# Altium integrated library Infineon_Power_Smart_Low-Side_&_High-Side_Switches.IntLib: 238 symbols (part 13 of 14)
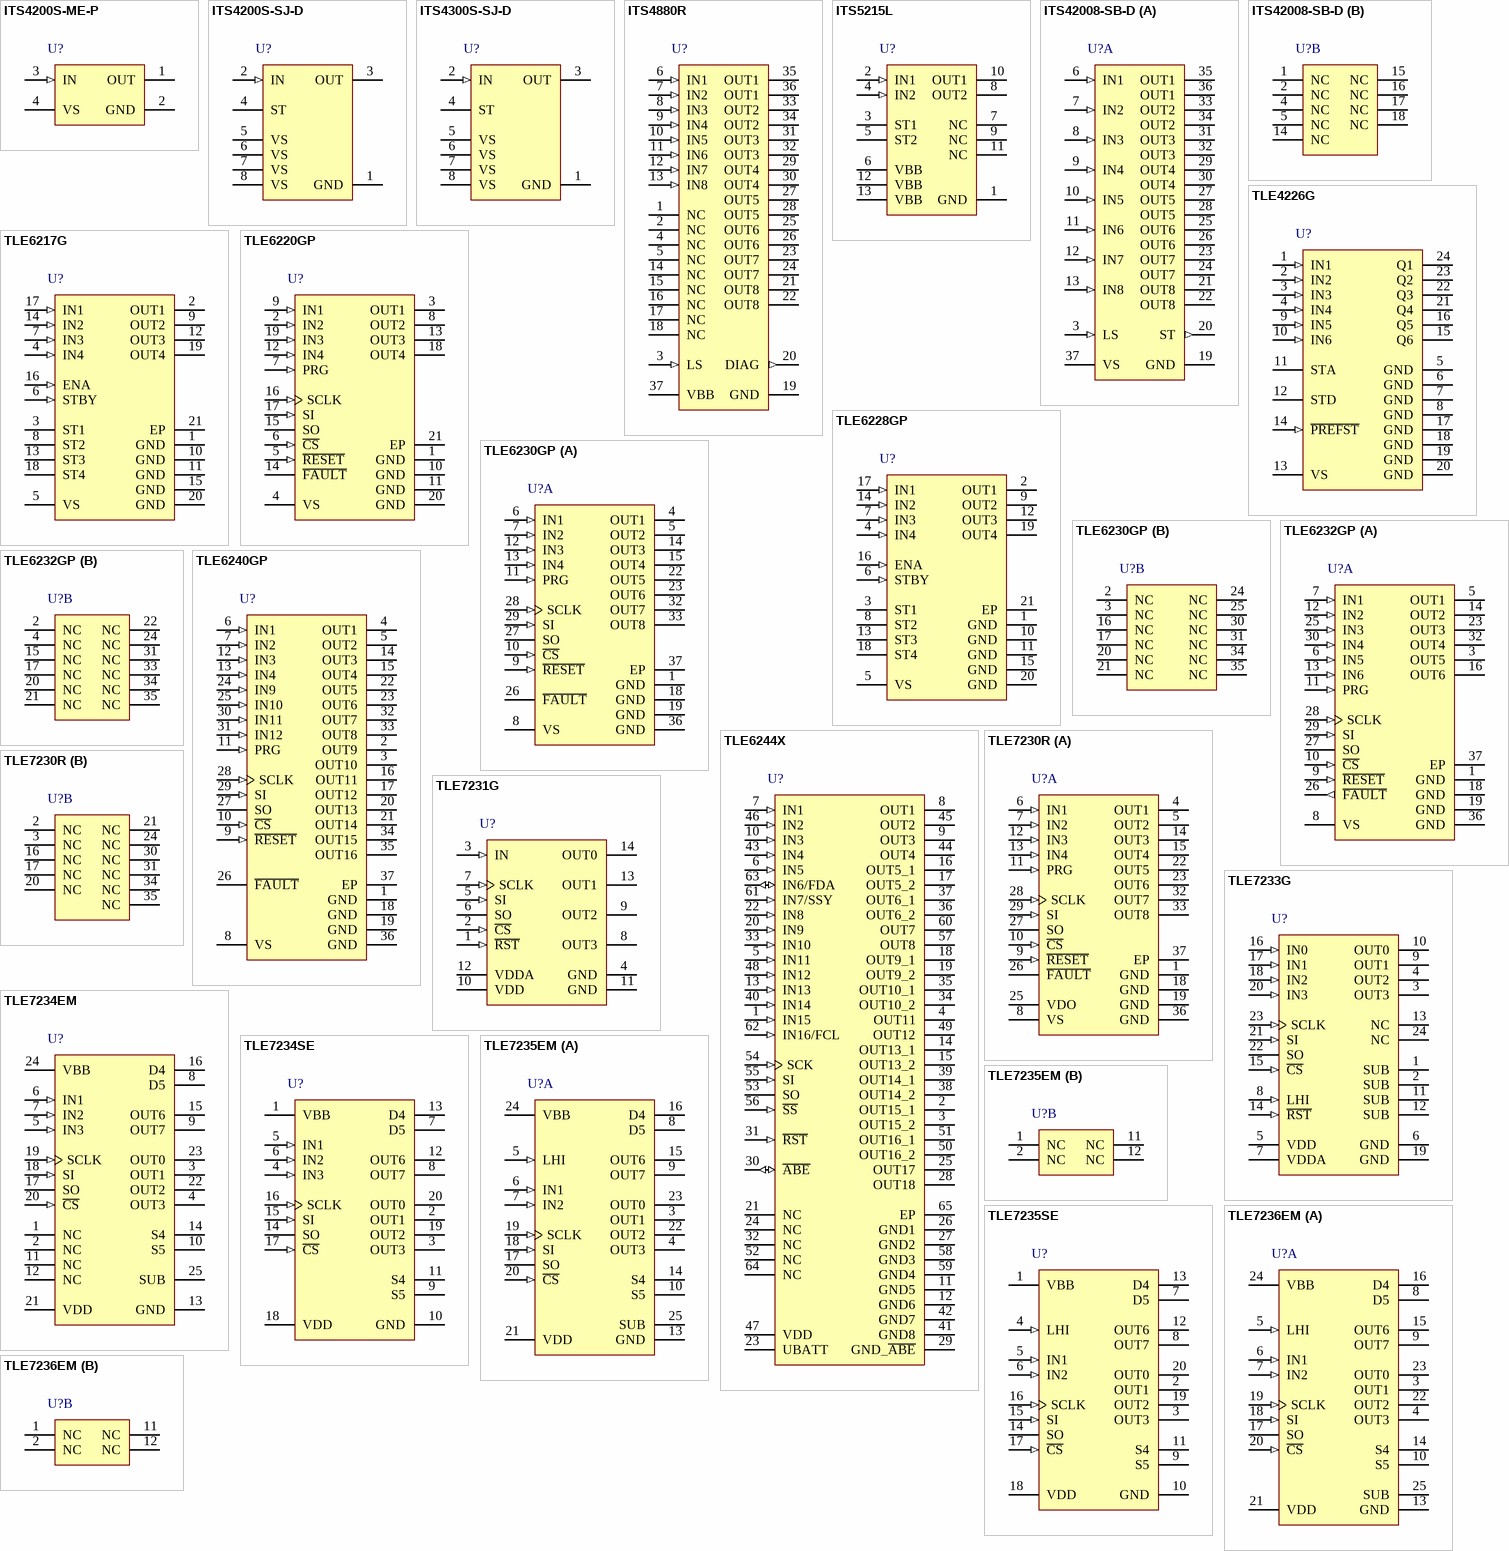
[diagram p19: symbols ITS4200S-ME-P to TLE7236EM]

## TLE7235SE
designator U?
SPI Driver for Enhanced Relay Control, 10 uA Quiescent Current, 3 to 5.5 V VDD, -40 to 150 degC, PG-DSO-20-45, Reel, Green; Manufacturer: Infineon; PartNumber: TLE7235SE; Channels: 8; Configurable channels: 2; Cranking mode: FALSE; Daisy-chain capability: TRUE; ID nom: 280 mA; ID(lim) (min): 0.5 A; Open Load Detection: off; Overcurrent limitation or shutdown: Shutdown; Quiescent Current (max): 10 uA; RDS (on) (max): 1.8 Ohm; RDS (on) (typ): 0.85 Ohm; SPI: 8 Bit; VDD: 3 - 5.5 V; VDS(CL): 41 - 52 V; DatasheetVersion: Rev. 1.1; PackageVersion: Apr-11; PackageReference: PG-DSO-20-45; PackageDescription: 20-Pin Plastic (Green) Dual Small Outline Package, 12.7 x 7.5 mm Body, 1.27 mm Pitch; Supplier 1: Mouser; Supplier Part Number 1: 726-TLE7235SE; Supplier 2: Digi-Key; Supplier Part Number 2: TLE7235SE-ND; Green: TRUE; Halogen-free: TRUE; Limp Home Feature: TRUE; Open Load Disable Function: TRUE; Packing: Reel; PWM Inputs: 2; Short to GND detection: TRUE; Standby mode: TRUE; Undervoltage Shutdown: TRUE; Mounting Technology: Surface Mount; ComponentLink1Description: Manufacturer URL; ComponentLink1URL: http://www.infineon.com/; ComponentLink2Description: Datasheet; ComponentLink2URL: http://www.infineon.com/dgdl/TLE7235SE_DS_11.pdf?folderId=db3a3043163797a6011667aa084c0e01&fileId=db3a3043284aacd8012887f07d4d7fef&location=en.Products.Automotive_ICs.Smart_High-_and_Low-Side_Switches.SPIDER___SPI_Driver_for_enhanced_relay_control.DATASHEET.TLE7235SE_DS_11.pdf; ComponentLink3Description: Package Specification; ComponentLink3URL: http://www.infineon.com/dgdl/TLE7235SE_DS_11.pdf?folderId=db3a3043163797a6011667aa084c0e01&fileId=db3a3043284aacd8012887f07d4d7fef&sId=db3a30443d67b5ca013d7d7458a72269
footprint INF-PG-DSO-20-45_N (SOP, 20-Leads, Body 12.7x7.5mm, Pitch 1.27mm, IPC Medium Density)
footprint INF-PG-DSO-20-45_L (SOP, 20-Leads, Body 12.7x7.5mm, Pitch 1.27mm, IPC High Density)
footprint INF-PG-DSO-20-45_M (SOP, 20-Leads, Body 12.7x7.5mm, Pitch 1.27mm, IPC Low Density)
pins: 1 VBB (power) "Power supply", 2 OUT1 (power) "Source of high side power transistor channel 1", 3 OUT3 (power) "Source of high side power transistor channel 3", 4 LHI (in) "Limp home activation input pin (pull down)", 5 IN1 (in) "Input multiplexer input 1 pin (pull down)", 6 IN2 (in) "Input multiplexer input 2 pin (pull down)", 7 D5 (power) "Drain of auto configuring power transistor 5", 8 OUT7 (power) "Drain of low side power transistor channel 7", 9 S5 (power) "Source of auto configuring power transistor 5", 10 GND (power) "Digital,analog and power ground", 11 S4 (power) "Source of auto configuring power transistor 4", 12 OUT6 (power) "Drain of low side power transistor channel 6", 13 D4 (power) "Drain of auto configuring power transistor 4", 14 SO (hiz) "Serial data out", 15 SI (in) "Serial data in", 16 SCLK (in) "Serial clock", 17 ~{CS} (in) "SPI Chip select (pull up)", 18 VDD (power) "Digital power supply", 19 OUT2 (power) "Source of high side power transistor channel 2", 20 OUT0 (power) "Source of high side power transistor channel 0"

## TLE7236EM
designator U?
SPI Driver for Enhanced Relay Control, 10 uA Quiescent Current, 3 to 5.5 V VDD, -40 to 150 degC, PG-SSOP-24-4, Reel, Green; Manufacturer: Infineon; PartNumber: TLE7236EM; Channels: 8; Configurable channels: 2; Cranking mode: TRUE; ID nom: 350 mA; ID(lim) (min): 0.5 A; Open Load Detection: off; Overcurrent limitation or shutdown: Shutdown; Quiescent Current (max): 10 uA; RDS (on) (max): 1.9 Ohm; RDS (on) (typ): 0.9 Ohm; SPI: 8 Bit; VDD: 3 - 5.5 V; VDS(CL): 41 - 52 V; DatasheetVersion: Rev. 1.1; PackageVersion: Oct-12; PackageReference: PG-SSOP-24-4; PackageDescription: 24-Pin Plastic (Green) Shrink Small Outline Package, 8.65 x 3.9 mm Body, 0.65 mm Pitch; Supplier 1: Mouser; Supplier Part Number 1: 726-TLE7236EM; Supplier 2: Digi-Key; Supplier Part Number 2: TLE7236EM-ND; Daisy-chain capability: TRUE; Green: TRUE; Halogen-free: TRUE; Limp Home Feature: TRUE; Open Load Disable Function: TRUE; Packing: Reel; PWM Inputs: 2; Short to GND detection: TRUE; Standby mode: TRUE; Undervoltage Shutdown: TRUE; Mounting Technology: Surface Mount; ComponentLink1Description: Manufacturer URL; ComponentLink1URL: http://www.infineon.com/; ComponentLink2Description: Datasheet; ComponentLink2URL: http://www.infineon.com/dgdl/TLE7236EM_DS_11.pdf?folderId=db3a3043163797a6011667aa084c0e01&fileId=db3a3043284aacd8012887f318227ff7&location=en.Products.Automotive_ICs.Smart_High-_and_Low-Side_Switches.SPIDER___SPI_Driver_for_enhanced_relay_control.DATASHEET.TLE7236EM_DS_11.pdf; ComponentLink3Description: Package Specification; ComponentLink3URL: http://www.infineon.com/dgdl/TLE8088EM_DS_10.pdf?folderId=db3a30431b3e89eb011bb632994f065b&fileId=db3a30433a047ba0013a446e76be0bbb&location=en.Products.Automotive_ICs.Powertrain_ICs.Power_Interface_Products_for_Motorcycle_and_Small_Engines.DATASHEET.TLE8088EM_DS_10.pdf
footprint INF-PG-SSOP-24-4_N (SOP, 24-Leads, Body 8.65x3.9mm, Pitch 0.65mm, Thermal Pad 6.65x2.9mm, IPC Medium Density)
footprint INF-PG-SSOP-24-4_L (SOP, 24-Leads, Body 8.65x3.9mm, Pitch 0.65mm, Thermal Pad 6.65x2.9mm, IPC High Density)
footprint INF-PG-SSOP-24-4_M (SOP, 24-Leads, Body 8.65x3.9mm, Pitch 0.65mm, Thermal Pad 6.65x2.9mm, IPC Low Density)
part A pins: 3 OUT1 (power) "Source of high side power transistor channel 1", 4 OUT3 (power) "Source of high side power transistor channel 3", 5 LHI (in) "Limp home activation input pin (pull down)", 6 IN1 (in) "Input multiplexer input 1 pin (pull down)", 7 IN2 (in) "Input multiplexer input 2 pin (pull down)", 8 D5 (power) "Drain of auto configuring power transistor 5", 9 OUT7 (power) "Drain of low side power transistor channel 7", 10 S5 (power) "Source of auto configuring power transistor 5", 13 GND (power) "Digital, analog and power ground", 14 S4 (power) "Source of auto configuring power transistor 4", 15 OUT6 (power) "Drain of low side power transistor channel 6", 16 D4 (power) "Drain of auto configuring power transistor 4", 17 SO (hiz) "Serial data out", 18 SI (in) "Serial data in", 19 SCLK (in) "Serial clock", 20 ~{CS} (in) "SPI Chip select (pull up)", 21 VDD (power) "Digital power supply", 22 OUT2 (power) "Source of high side power transistor channel 2", 23 OUT0 (power) "Source of high side power transistor channel 0", 24 VBB (power) "Power supply", 25 SUB "Substrate pins for thermal connection. To enable reverse polarity protection these pins must be floating"
part B pins: 1 NC "not connected", 2 NC "not connected", 11 NC "not connected", 12 NC "not connected"

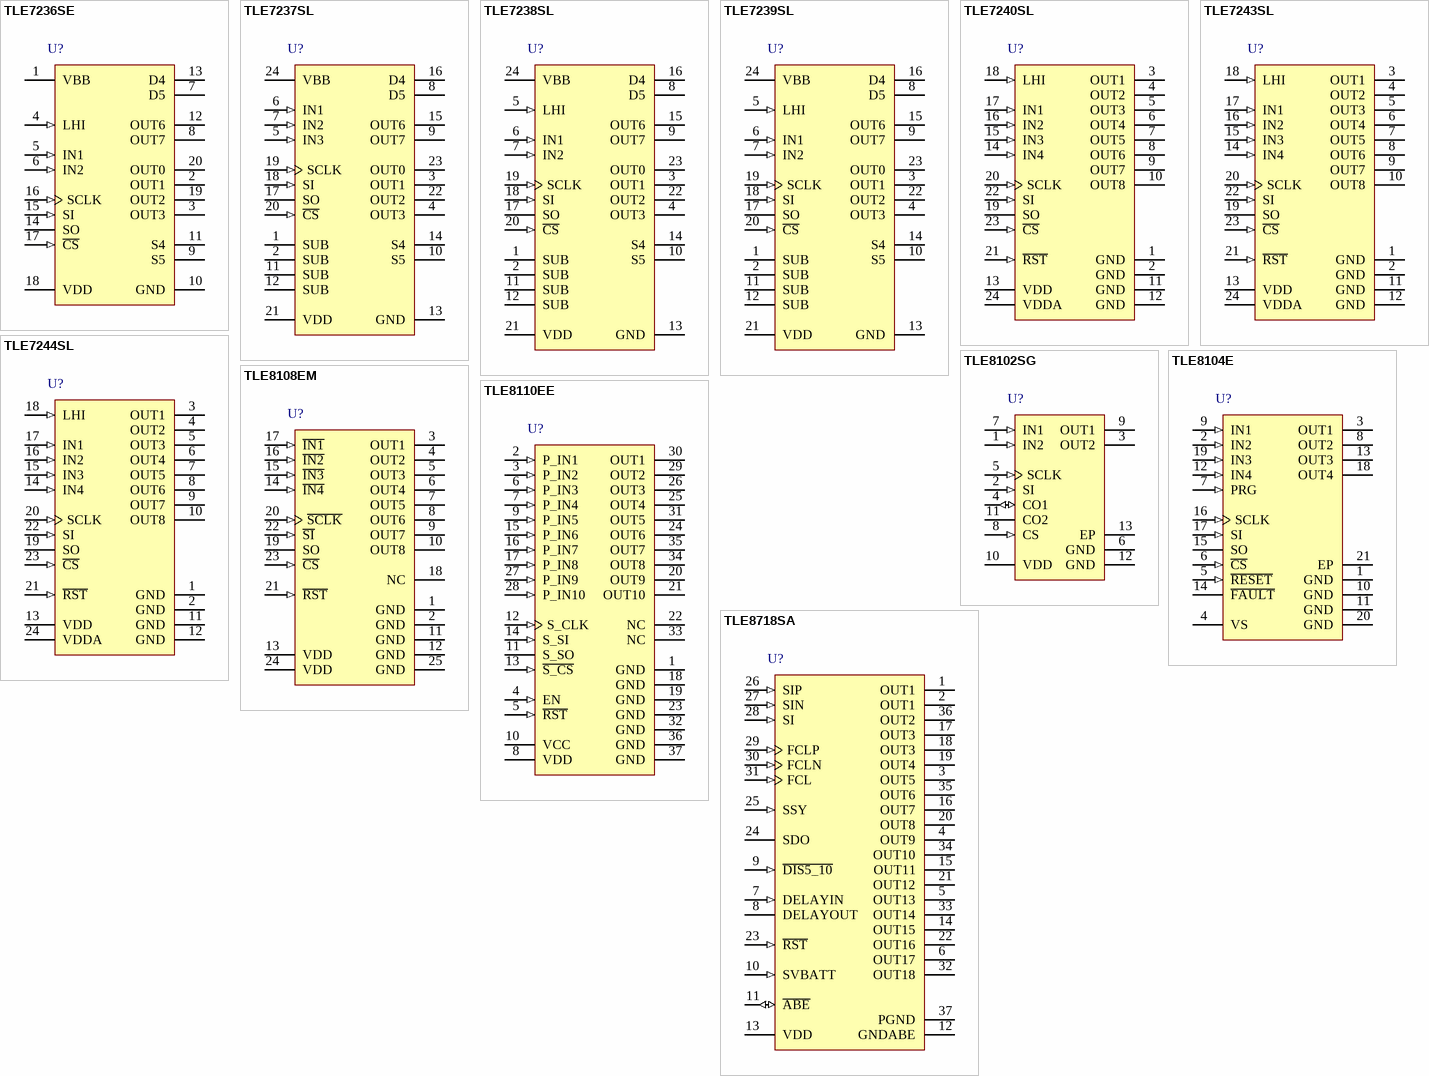
[diagram p7: symbols TLE7236SE to TLE8718SA]

## TLE7236SE
designator U?
SPI Driver for Enhanced Relay Control, 10 uA Quiescent Current, 3 to 5.5 V VDD, -40 to 150 degC, PG-DSO-20-45, Reel, Green; Manufacturer: Infineon; PartNumber: TLE7236SE; Channels: 8; Configurable channels: 2; Cranking mode: TRUE; ID nom: 280 mA; ID(lim) (min): 0.5 A; Open Load Detection: off; Overcurrent limitation or shutdown: Shutdown; Quiescent Current (max): 10 uA; RDS (on) (max): 1.8 Ohm; RDS (on) (typ): 0.85 Ohm; SPI: 8 Bit; VDD: 3 - 5.5 V; VDS(CL): 41 - 52 V; DatasheetVersion: Rev. 1.1; PackageVersion: Apr-11; PackageReference: PG-DSO-20-45; PackageDescription: 20-Pin Plastic (Green) Dual Small Outline Package, 12.7 x 7.5 mm Body, 1.27 mm Pitch; Supplier 1: Mouser; Supplier Part Number 1: 726-TLE7236SE; Supplier 2: Digi-Key; Supplier Part Number 2: TLE7236SE-ND; Daisy-chain capability: TRUE; Green: TRUE; Halogen-free: TRUE; Limp Home Feature: TRUE; Open Load Disable Function: TRUE; Packing: Reel; PWM Inputs: 2; Short to GND detection: TRUE; Standby mode: TRUE; Undervoltage Shutdown: TRUE; Mounting Technology: Surface Mount; ComponentLink1Description: Manufacturer URL; ComponentLink1URL: http://www.infineon.com/; ComponentLink2Description: Datasheet; ComponentLink2URL: http://www.infineon.com/dgdl/TLE7236SE_DS_11.pdf?folderId=db3a3043163797a6011667aa084c0e01&fileId=db3a3043284aacd8012888809e310011&location=en.Products.Automotive_ICs.Smart_High-_and_Low-Side_Switches.SPIDER___SPI_Driver_for_enhanced_relay_control.DATASHEET.TLE7236SE_DS_11.pdf; ComponentLink3Description: Package Specification; ComponentLink3URL: http://www.infineon.com/dgdl/TLE7235SE_DS_11.pdf?folderId=db3a3043163797a6011667aa084c0e01&fileId=db3a3043284aacd8012887f07d4d7fef&sId=db3a30443d67b5ca013d7d7458a72269
footprint INF-PG-DSO-20-45_N (SOP, 20-Leads, Body 12.7x7.5mm, Pitch 1.27mm, IPC Medium Density)
footprint INF-PG-DSO-20-45_L (SOP, 20-Leads, Body 12.7x7.5mm, Pitch 1.27mm, IPC High Density)
footprint INF-PG-DSO-20-45_M (SOP, 20-Leads, Body 12.7x7.5mm, Pitch 1.27mm, IPC Low Density)
pins: 1 VBB (power) "Power supply", 2 OUT1 (power) "Source of high side power transistor channel 1", 3 OUT3 (power) "Source of high side power transistor channel 3", 4 LHI (in) "Limp home activation input pin (pull down)", 5 IN1 (in) "Input multiplexer input 1 pin (pull down)", 6 IN2 (in) "Input multiplexer input 2 pin (pull down)", 7 D5 (power) "Drain of auto configuring power transistor 5", 8 OUT7 (power) "Drain of low side power transistor channel 7", 9 S5 "Source of auto configuring power transistor 5", 10 GND (power) "Digital,analog and power ground", 11 S4 "Source of auto configuring power transistor 4", 12 OUT6 (power) "Drain of low side power transistor channel 6", 13 D4 (power) "Drain of auto configuring power transistor 4", 14 SO (hiz) "Serial data out", 15 SI (in) "Serial data in", 16 SCLK (in) "Serial clock", 17 ~{CS} (in) "SPI Chip select (pull up)", 18 VDD (power) "Digital power supply", 19 OUT2 (power) "Source of high side power transistor channel 2", 20 OUT0 (power) "Source of high side power transistor channel 0"

## TLE7237SL
designator U?
SPI Driver for Enhanced Relay Control, 10 uA Quiescent Current, 3 to 5.5 V VDD, -40 to 150 degC, PG-SSOP-24-5, Reel, Green; Manufacturer: Infineon; PartNumber: TLE7237SL; Channels: 8; Configurable channels: 2; Cranking mode: FALSE; Daisy-chain capability: TRUE; ID nom: 260 mA; ID(lim) (min): 0.5 A; Open Load Detection: off; Overcurrent limitation or shutdown: Shutdown; PWM Inputs: 3; Quiescent Current (max): 10 uA; RDS (on) (max): 1.9 Ohm; RDS (on) (typ): 0.9 Ohm; SPI: 8 Bit; VDD: 3 - 5.5 V; VDS(CL): 41 - 52 V; DatasheetVersion: Rev. 1.1; PackageVersion: Apr-10; PackageReference: PG-SSOP-24-5; PackageDescription: 24-Pin Plastic (Green) Shrink Small Outline Package, 8.65 x 3.9 mm Body, 0.65 mm Pitch; Supplier 1: Mouser; Supplier Part Number 1: 726-TLE7237SL; Supplier 2: Digi-Key; Supplier Part Number 2: TLE7237SL-ND; Green: TRUE; Halogen-free: TRUE; Limp Home Feature: FALSE; Open Load Disable Function: TRUE; Packing: Reel; Short to GND detection: TRUE; Standby mode: TRUE; Undervoltage Shutdown: TRUE; Mounting Technology: Surface Mount; ComponentLink1Description: Manufacturer URL; ComponentLink1URL: http://www.infineon.com/; ComponentLink2Description: Datasheet; ComponentLink2URL: http://www.infineon.com/dgdl/TLE7237SL_DS_11.pdf?folderId=db3a3043163797a6011667aa084c0e01&fileId=db3a3043284aacd80128887b1ecf7ffd&location=en.Products.Automotive_ICs.Smart_High-_and_Low-Side_Switches.SPIDER___SPI_Driver_for_enhanced_relay_control.DATASHEET.TLE7237SL_DS_11.pdf; ComponentLink3Description: Package Specification; ComponentLink3URL: http://www.infineon.com/dgdl/PG-SSOP-24-5%2C-6%2C-7-Package_Overview.pdf?folderId=db3a304327b897500127f7a03f7d6554&fileId=db3a304327b89750012817aa493a1a04
footprint INF-PG-SSOP-24-5_N (SOP, 24-Leads, Body 8.65x3.9mm, Pitch 0.65mm, IPC Medium Density)
footprint INF-PG-SSOP-24-5_L (SOP, 24-Leads, Body 8.65x3.9mm, Pitch 0.65mm, IPC High Density)
footprint INF-PG-SSOP-24-5_M (SOP, 24-Leads, Body 8.65x3.9mm, Pitch 0.65mm, IPC Low Density)
pins: 1 SUB "Substrate pins for thermal connection. To enable reverse polarity protection these pins must be floating", 2 SUB "Substrate pins for thermal connection. To enable reverse polarity protection these pins must be floating", 3 OUT1 (power) "Source of high side power transistor channel 1", 4 OUT3 (power) "Source of high side power transistor channel 3", 5 IN3 (in) "Input multiplexer input 3 pin (pull down)", 6 IN1 (in) "Input multiplexer input 1 pin (pull down)", 7 IN2 (in) "Input multiplexer input 2 pin (pull down)", 8 D5 (power) "Drain of auto configuring power transistor 5", 9 OUT7 (power) "Drain of low side power transistor channel 7", 10 S5 (power) "Source of auto con?guring power transistor 5", 11 SUB "Substrate pins for thermal connection. To enable reverse polarity protection these pins must be floating", 12 SUB "Substrate pins for thermal connection. To enable reverse polarity protection these pins must be floating", 13 GND (power) "Digital, analog and power ground", 14 S4 (power) "Source of auto configuring power transistor 4", 15 OUT6 (power) "Drain of low side power transistor channel 6", 16 D4 (power) "Drain of auto con?guring power transistor 4", 17 SO (hiz) "Serial data out", 18 SI (in) "Serial data in.", 19 SCLK (in) "Serial clock.", 20 ~{CS} (in) "SPI Chip select (pull up)", 21 VDD (power) "Digital power supply", 22 OUT2 (power) "Source of high side power transistor channel 2", 23 OUT0 (power) "Source of high side power transistor channel 0", 24 VBB (power) "Power supply"

## TLE7238SL
designator U?
SPI Driver for Enhanced Relay Control, 10 uA Quiescent Current, 3 to 5.5 V VDD, -40 to 150 degC, PG-SSOP-24-5, Reel, Green; Manufacturer: Infineon; PartNumber: TLE7238SL; Channels: 8; Configurable channels: 2; Cranking mode: FALSE; Daisy-chain capability: TRUE; ID nom: 260 mA; ID(lim) (min): 0.5 A; Open Load Detection: off; Overcurrent limitation or shutdown: Shutdown; Quiescent Current (max): 10 uA; RDS (on) (max): 1.9 Ohm; RDS (on) (typ): 0.9 Ohm; SPI: 8 Bit; VDD: 3 - 5.5 V; VDS(CL): 41 - 52 V; DatasheetVersion: Rev. 1.1; PackageVersion: Apr-10; PackageReference: PG-SSOP-24-5; PackageDescription: 24-Pin Plastic (Green) Shrink Small Outline Package, 8.65 x 3.9 mm Body, 0.65 mm Pitch; Supplier 1: Mouser; Supplier Part Number 1: 726-TLE7238SL; Supplier 2: Digi-Key; Supplier Part Number 2: TLE7238SL-ND; Green: TRUE; Halogen-free: TRUE; Limp Home Feature: TRUE; Open Load Disable Function: TRUE; Packing: Reel; PWM Inputs: 2; Short to GND detection: TRUE; Standby mode: TRUE; Undervoltage Shutdown: TRUE; Mounting Technology: Surface Mount; ComponentLink1Description: Manufacturer URL; ComponentLink1URL: http://www.infineon.com/; ComponentLink2Description: Datasheet; ComponentLink2URL: http://www.infineon.com/dgdl/TLE7238SL_DS_11.pdf?folderId=db3a3043163797a6011667aa084c0e01&fileId=db3a3043284aacd80128887c9d390002&location=en.Products.Automotive_ICs.Smart_High-_and_Low-Side_Switches.SPIDER___SPI_Driver_for_enhanced_relay_control.DATASHEET.TLE7238SL_DS_11.pdf; ComponentLink3Description: Package Specification; ComponentLink3URL: http://www.infineon.com/dgdl/PG-SSOP-24-5%2C-6%2C-7-Package_Overview.pdf?folderId=db3a304327b897500127f7a03f7d6554&fileId=db3a304327b89750012817aa493a1a04
footprint INF-PG-SSOP-24-5_N (SOP, 24-Leads, Body 8.65x3.9mm, Pitch 0.65mm, IPC Medium Density)
footprint INF-PG-SSOP-24-5_L (SOP, 24-Leads, Body 8.65x3.9mm, Pitch 0.65mm, IPC High Density)
footprint INF-PG-SSOP-24-5_M (SOP, 24-Leads, Body 8.65x3.9mm, Pitch 0.65mm, IPC Low Density)
pins: 1 SUB "Substrate pins for thermal connection. To enable reverse polarity protection these pins must be floating", 2 SUB "Substrate pins for thermal connection. To enable reverse polarity protection these pins must be floating", 3 OUT1 (power) "Source of high side power transistor channel 1", 4 OUT3 (power) "Source of high side power transistor channel 3", 5 LHI (in) "Limp home activation input pin (pull down)", 6 IN1 (in) "Input multiplexer input 1 pin (pull down)", 7 IN2 (in) "Input multiplexer input 2 pin (pull down)", 8 D5 (power) "Drain of auto con?guring power transistor 5", 9 OUT7 (power) "Drain of low side power transistor channel 7", 10 S5 (power) "Source of auto configuring power transistor 5", 11 SUB "Substrate pins for thermal connection. To enable reverse polarity protection these pins must be floating", 12 SUB "Substrate pins for thermal connection. To enable reverse polarity protection these pins must be floating", 13 GND (power) "Digital, analog and power ground", 14 S4 (power) "Source of auto configuring power transistor 4", 15 OUT6 (power) "Drain of low side power transistor channel 6", 16 D4 (power) "Drain of auto con?guring power transistor 4", 17 SO (hiz) "Serial data out", 18 SI (in) "Serial data in.", 19 SCLK (in) "Serial clock.", 20 ~{CS} (in) "SPI Chip select (pull up)", 21 VDD (power) "Digital power supply", 22 OUT2 (power) "Source of high side power transistor channel 2", 23 OUT0 (power) "Source of high side power transistor channel 0", 24 VBB (power) "Power supply"

## TLE7239SL
designator U?
SPI Driver for Enhanced Relay Control, 10 uA Quiescent Current, 3 to 5.5 V VDD, -40 to 150 degC, PG-SSOP-24-5, Reel, Green; Manufacturer: Infineon; PartNumber: TLE7239SL; Channels: 8; Configurable channels: 2; Cranking mode: TRUE; ID nom: 260 mA; ID(lim) (min): 0.5 A; Open Load Detection: off; Overcurrent limitation or shutdown: Shutdown; Quiescent Current (max): 10 uA; RDS (on) (max): 1.9 Ohm; RDS (on) (typ): 0.9 Ohm; SPI: 8 Bit; VDD: 3 - 5.5 V; VDS(CL): 41 - 52 V; DatasheetVersion: Rev. 1.1; PackageVersion: Apr-10; PackageReference: PG-SSOP-24-5; PackageDescription: 24-Pin Plastic (Green) Shrink Small Outline Package, 8.65 x 3.9 mm Body, 0.65 mm Pitch; Supplier 1: Mouser; Supplier Part Number 1: 726-TLE7239SL; Supplier 2: Digi-Key; Supplier Part Number 2: TLE7239SL-ND; Daisy-chain capability: TRUE; Green: TRUE; Halogen-free: TRUE; Limp Home Feature: TRUE; Open Load Disable Function: TRUE; Packing: Reel; PWM Inputs: 2; Short to GND detection: TRUE; Standby mode: TRUE; Undervoltage Shutdown: TRUE; Mounting Technology: Surface Mount; ComponentLink1Description: Manufacturer URL; ComponentLink1URL: http://www.infineon.com/; ComponentLink2Description: Datasheet; ComponentLink2URL: http://www.infineon.com/dgdl/TLE7239SL_DS_11.pdf?folderId=db3a3043163797a6011667aa084c0e01&fileId=db3a3043284aacd80128887ddae30007&location=en.Products.Automotive_ICs.Smart_High-_and_Low-Side_Switches.SPIDER___SPI_Driver_for_enhanced_relay_control.DATASHEET.TLE7239SL_DS_11.pdf; ComponentLink3Description: Package Specification; ComponentLink3URL: http://www.infineon.com/dgdl/PG-SSOP-24-5%2C-6%2C-7-Package_Overview.pdf?folderId=db3a304327b897500127f7a03f7d6554&fileId=db3a304327b89750012817aa493a1a04
footprint INF-PG-SSOP-24-5_N (SOP, 24-Leads, Body 8.65x3.9mm, Pitch 0.65mm, IPC Medium Density)
footprint INF-PG-SSOP-24-5_L (SOP, 24-Leads, Body 8.65x3.9mm, Pitch 0.65mm, IPC High Density)
footprint INF-PG-SSOP-24-5_M (SOP, 24-Leads, Body 8.65x3.9mm, Pitch 0.65mm, IPC Low Density)
pins: 1 SUB "Substrate pins for thermal connection. To enable reverse polarity protection these pins must be floating", 2 SUB "Substrate pins for thermal connection. To enable reverse polarity protection these pins must be floating", 3 OUT1 (power) "Source of high side power transistor channel 1", 4 OUT3 (power) "Source of high side power transistor channel 3", 5 LHI (in) "Limp home activation input pin (pull down)", 6 IN1 (in) "Input multiplexer input 1 pin (pull down)", 7 IN2 (in) "Input multiplexer input 2 pin (pull down)", 8 D5 (power) "Drain of auto con?guring power transistor 5", 9 OUT7 (power) "Drain of low side power transistor channel 7", 10 S5 (power) "Source of auto configuring power transistor 5", 11 SUB "Substrate pins for thermal connection. To enable reverse polarity protection these pins must be floating", 12 SUB "Substrate pins for thermal connection. To enable reverse polarity protection these pins must be floating", 13 GND (power) "Digital, analog and power ground", 14 S4 (power) "Source of auto configuring power transistor 4", 15 OUT6 (power) "Drain of low side power transistor channel 6", 16 D4 (power) "Drain of auto con?guring power transistor 4", 17 SO (hiz) "Serial data out", 18 SI (in) "Serial data in.", 19 SCLK (in) "Serial clock.", 20 ~{CS} (in) "SPI Chip select (pull up)", 21 VDD (power) "Digital power supply", 22 OUT2 (power) "Source of high side power transistor channel 2", 23 OUT0 (power) "Source of high side power transistor channel 0", 24 VBB (power) "Power supply"

## TLE7240SL
designator U?
SPIDER-8 Channel Protected Low-Side Relay Switch, 10 uA Quiescent Current, 3 to 5.5 V VDD, -40 to 150 degC, PG-SSOP-24-7, Reel, Green; Manufacturer: Infineon; PartNumber: TLE7240SL; Channels: 8; Cranking mode: FALSE; Daisy-chain capability: TRUE; ID nom: 210 mA; ID(lim) (min): 0.5 A; Open Load Detection: off; Overcurrent limitation or shutdown: No; PWM Inputs: 4; Quiescent Current (max): 10 uA; RDS (on) (max): 3 Ohm; RDS (on) (typ): 1.5 Ohm; SPI: 16 Bit; VDD: 3 - 5.5 V; VDS(CL): 41 - 52 V; DatasheetVersion: Rev. 1.4; PackageVersion: Apr-10; PackageReference: PG-SSOP-24-7; PackageDescription: 24-Pin Plastic (Green) Shrink Small Outline Package, 8.65 x 3.9 mm Body, 0.65 mm Pitch; Supplier 1: Mouser; Supplier Part Number 1: 726-TLE7240SL; Supplier 2: Digi-Key; Supplier Part Number 2: TLE7240SL-ND; Green: TRUE; Halogen-free: TRUE; Limp Home Feature: TRUE; Open Load Disable Function: TRUE; Packing: Reel; Short to GND detection: TRUE; Standby mode: TRUE; Undervoltage Shutdown: TRUE; Mounting Technology: Surface Mount; ComponentLink1Description: Manufacturer URL; ComponentLink1URL: http://www.infineon.com/; ComponentLink2Description: Datasheet; ComponentLink2URL: http://www.infineon.com/dgdl/TLE7240SL_DS_14.pdf?folderId=db3a3043163797a6011667aa084c0e01&fileId=db3a304320896aa20120c7aa1fe1325c&location=en.Products.Automotive_ICs.Smart_High-_and_Low-Side_Switches.SPIDER___SPI_Driver_for_enhanced_relay_control.DATASHEET.TLE7240SL_DS_14.pdf; ComponentLink3Description: Package Specification; ComponentLink3URL: http://www.infineon.com/dgdl/PG-SSOP-24-5%2C-6%2C-7-Package_Overview.pdf?folderId=db3a304327b897500127f7a03f7d6554&fileId=db3a304327b89750012817aa493a1a04
footprint INF-PG-SSOP-24-7_N (SOP, 24-Leads, Body 8.65x3.9mm, Pitch 0.65mm, IPC Medium Density)
footprint INF-PG-SSOP-24-7_L (SOP, 24-Leads, Body 8.65x3.9mm, Pitch 0.65mm, IPC High Density)
footprint INF-PG-SSOP-24-7_M (SOP, 24-Leads, Body 8.65x3.9mm, Pitch 0.65mm, IPC Low Density)
pins: 1 GND (power) "Ground; common ground for digital, analog and power", 2 GND (power) "Ground; common ground for digital, analog and power", 3 OUT1 (power) "Output Channel 1; Drain of power transistor channel 1", 4 OUT2 (power) "Output Channel 2; Drain of power transistor channel 2", 5 OUT3 (power) "Output Channel 3; Drain of power transistor channel 3", 6 OUT4 (power) "Output Channel 4; Drain of power transistor channel 4", 7 OUT5 (power) "Output Channel 5; Drain of power transistor channel 5", 8 OUT6 (power) "Output Channel 6; Drain of power transistor channel 6", 9 OUT7 (power) "Output Channel 7; Drain of power transistor channel 7", 10 OUT8 (power) "Output Channel 8; Drain of power transistor channel 8", 11 GND (power) "Ground; common ground for digital, analog and power", 12 GND (power) "Ground; common ground for digital, analog and power", 13 VDD (power) "Digital Supply Voltage; Connected to 3.3V or 5V Voltage with Reverse protection Diode and Filter against EMC", 14 IN4 (in) "Control Input; Digital input 3.3 V or 5V. In case of not used keep open.", 15 IN3 (in) "Control Input; Digital input 3.3 V or 5V. In case of not used keep open.", 16 IN2 (in) "Control Input; Digital input 3.3 V or 5V. In case of not used keep open.", 17 IN1 (in) "Control Input; Digital input 3.3 V or 5V. In case of not used keep open.", 18 LHI (in) "Limp Home; Digital input 3.3 V or 5V. In case of not used keep open.", 19 SO (hiz) "Serial data out; Digital output with voltage level referring to VDD .", 20 SCLK (in) "Serial clock; Digital input 3.3 V or 5V.", 21 ~{RST} (in) "Reset input pin; Digital input 3.3 V or 5V. Low active", 22 SI (in) "Serial data in; Digital input 3.3 V or 5V.", 23 ~{CS} (in) "SPI chip select; Digital input 3.3 V or 5V. Low active", 24 VDDA (power) "Analog Supply Voltage; Connected to 5V Voltage with Reverse protection Diode and Filter against EMC"

## TLE7243SL
designator U?
SPIDER-8 Channel Protected Low-Side Relay Switch, 10 uA Quiescent Current, 3 to 5.5 V VDD, -40 to 150 degC, PG-SSOP-24-7, Reel, Green; Manufacturer: Infineon; PartNumber: TLE7243SL; Channels: 8; Cranking mode: FALSE; Daisy-chain capability: TRUE; ID nom: 260 mA; ID(lim) (min): 0.5 A; Open Load Detection: off; Overcurrent limitation or shutdown: No; PWM Inputs: 4; Quiescent Current (max): 10 uA; RDS (on) (max): 2.1 Ohm; RDS (on) (typ): 1.2 Ohm; SPI: 16 Bit; VDD: 3 - 5.5 V; VDS(CL): 41 - 52 V; DatasheetVersion: Rev. 1.3; PackageVersion: Apr-10; PackageReference: PG-SSOP-24-7; PackageDescription: 24-Pin Plastic (Green) Shrink Small Outline Package, 8.65 x 3.9 mm Body, 0.65 mm Pitch; Supplier 1: Mouser; Supplier Part Number 1: 726-TLE7243SL; Supplier 2: Digi-Key; Supplier Part Number 2: TLE7243SL-ND; Green: TRUE; Halogen-free: TRUE; Limp Home Feature: TRUE; Open Load Disable Function: TRUE; Packing: Reel; Short to GND detection: TRUE; Standby mode: TRUE; Undervoltage Shutdown: TRUE; Mounting Technology: Surface Mount; ComponentLink1Description: Manufacturer URL; ComponentLink1URL: http://www.infineon.com/; ComponentLink2Description: Datasheet; ComponentLink2URL: http://www.infineon.com/dgdl/TLE7243SL_DS_13.pdf?folderId=db3a304314dca3890114df197b25000f&fileId=db3a3043243b5f17012457aaa75109fa&location=en.Products.Automotive_ICs.Smart_High-_and_Low-Side_Switches.SPIDER___SPI_Driver_for_enhanced_relay_control.DATASHEET.TLE7243SL_DS_13.pdf; ComponentLink3Description: Package Specification; ComponentLink3URL: http://www.infineon.com/dgdl/PG-SSOP-24-5%2C-6%2C-7-Package_Overview.pdf?folderId=db3a304327b897500127f7a03f7d6554&fileId=db3a304327b89750012817aa493a1a04
footprint INF-PG-SSOP-24-7_N (SOP, 24-Leads, Body 8.65x3.9mm, Pitch 0.65mm, IPC Medium Density)
footprint INF-PG-SSOP-24-7_L (SOP, 24-Leads, Body 8.65x3.9mm, Pitch 0.65mm, IPC High Density)
footprint INF-PG-SSOP-24-7_M (SOP, 24-Leads, Body 8.65x3.9mm, Pitch 0.65mm, IPC Low Density)
pins: 1 GND (power) "Ground; common ground for digital, analog and power", 2 GND (power) "Ground; common ground for digital, analog and power", 3 OUT1 (power) "Output Channel 1; Drain of power transistor channel 1", 4 OUT2 (power) "Output Channel 2; Drain of power transistor channel 2", 5 OUT3 (power) "Output Channel 3; Drain of power transistor channel 3", 6 OUT4 (power) "Output Channel 4; Drain of power transistor channel 4", 7 OUT5 (power) "Output Channel 5; Drain of power transistor channel 5", 8 OUT6 (power) "Output Channel 6; Drain of power transistor channel 6", 9 OUT7 (power) "Output Channel 7; Drain of power transistor channel 7", 10 OUT8 (power) "Output Channel 8; Drain of power transistor channel 8", 11 GND (power) "Ground; common ground for digital, analog and power", 12 GND (power) "Ground; common ground for digital, analog and power", 13 VDD (power) "Digital Supply Voltage; Connected to 3.3V or 5V Voltage with Reverse protection Diode and Filter against EMC", 14 IN4 (in) "Control Input; Digital input 3.3 V or 5V. In case of not used keep open.", 15 IN3 (in) "Control Input; Digital input 3.3 V or 5V. In case of not used keep open.", 16 IN2 (in) "Control Input; Digital input 3.3 V or 5V. In case of not used keep open.", 17 IN1 (in) "Control Input; Digital input 3.3 V or 5V. In case of not used keep open.", 18 LHI (in) "Limp Home; Digital input 3.3 V or 5V. In case of not used keep open.", 19 SO (hiz) "Serial data out; Digital output with voltage level referring to VDD .", 20 SCLK (in) "Serial clock; Digital input 3.3 V or 5V.", 21 ~{RST} (in) "Reset input pin; Digital input 3.3 V or 5V. Low active", 22 SI (in) "Serial data in; Digital input 3.3 V or 5V.", 23 ~{CS} (in) "SPI chip select; Digital input 3.3 V or 5V. Low active", 24 VDDA (power) "Analog Supply Voltage; Connected to 5V Voltage with Reverse protection Diode and Filter against EMC"

## TLE7244SL
designator U?
SPIDER-8 Channel Protected Low-Side Relay Switch, 10 uA Quiescent Current, 3 to 5.5 V VDD, -40 to 150 degC, PG-SSOP-24-7, Reel, Green; Manufacturer: Infineon; PartNumber: TLE7244SL; Channels: 8; Cranking mode: FALSE; Daisy-chain capability: TRUE; ID nom: 290 mA; ID(lim) (min): 0.5 A; Open Load Detection: off; Overcurrent limitation or shutdown: No; PWM Inputs: 4; Quiescent Current (max): 10 uA; RDS (on) (max): 1.7 Ohm; RDS (on) (typ): 0.8 Ohm; SPI: 16 Bit; VDD: 3 - 5.5 V; VDS(CL): 41 - 52 V; DatasheetVersion: Rev. 1.3; PackageVersion: Apr-10; PackageReference: PG-SSOP-24-7; PackageDescription: 24-Pin Plastic (Green) Shrink Small Outline Package, 8.65 x 3.9 mm Body, 0.65 mm Pitch; Supplier 1: Mouser; Supplier Part Number 1: 726-TLE7244SL; Supplier 2: Digi-Key; Supplier Part Number 2: TLE7244SL-ND; Green: TRUE; Halogen-free: TRUE; Limp Home Feature: TRUE; Open Load Disable Function: TRUE; Packing: Reel; Short to GND detection: TRUE; Standby mode: TRUE; Undervoltage Shutdown: TRUE; Mounting Technology: Surface Mount; ComponentLink1Description: Manufacturer URL; ComponentLink1URL: http://www.infineon.com/; ComponentLink2Description: Datasheet; ComponentLink2URL: http://www.infineon.com/dgdl/TLE7244SL_DS_13.pdf?folderId=db3a3043163797a6011667aa084c0e01&fileId=db3a3043243b5f17012457a8816b09f5&location=en.Products.Automotive_ICs.Smart_High-_and_Low-Side_Switches.SPIDER___SPI_Driver_for_enhanced_relay_control.DATASHEET.TLE7244SL_DS_13.pdf; ComponentLink3Description: Package Specification; ComponentLink3URL: http://www.infineon.com/dgdl/PG-SSOP-24-5%2C-6%2C-7-Package_Overview.pdf?folderId=db3a304327b897500127f7a03f7d6554&fileId=db3a304327b89750012817aa493a1a04
footprint INF-PG-SSOP-24-7_N (SOP, 24-Leads, Body 8.65x3.9mm, Pitch 0.65mm, IPC Medium Density)
footprint INF-PG-SSOP-24-7_L (SOP, 24-Leads, Body 8.65x3.9mm, Pitch 0.65mm, IPC High Density)
footprint INF-PG-SSOP-24-7_M (SOP, 24-Leads, Body 8.65x3.9mm, Pitch 0.65mm, IPC Low Density)
pins: 1 GND (power) "Ground; common ground for digital, analog and power", 2 GND (power) "Ground; common ground for digital, analog and power", 3 OUT1 (power) "Output Channel 1; Drain of power transistor channel 1", 4 OUT2 (power) "Output Channel 2; Drain of power transistor channel 2", 5 OUT3 (power) "Output Channel 3; Drain of power transistor channel 3", 6 OUT4 (power) "Output Channel 4; Drain of power transistor channel 4", 7 OUT5 (power) "Output Channel 5; Drain of power transistor channel 5", 8 OUT6 (power) "Output Channel 6; Drain of power transistor channel 6", 9 OUT7 (power) "Output Channel 7; Drain of power transistor channel 7", 10 OUT8 (power) "Output Channel 8; Drain of power transistor channel 8", 11 GND (power) "Ground; common ground for digital, analog and power", 12 GND (power) "Ground; common ground for digital, analog and power", 13 VDD (power) "Digital Supply Voltage; Connected to 3.3V or 5V Voltage with Reverse protection Diode and Filter against EMC", 14 IN4 (in) "Control Input; Digital input 3.3 V or 5V. In case of not used keep open.", 15 IN3 (in) "Control Input; Digital input 3.3 V or 5V. In case of not used keep open.", 16 IN2 (in) "Control Input; Digital input 3.3 V or 5V. In case of not used keep open.", 17 IN1 (in) "Control Input; Digital input 3.3 V or 5V. In case of not used keep open.", 18 LHI (in) "Limp Home; Digital input 3.3 V or 5V. In case of not used keep open.", 19 SO (hiz) "Serial data out; Digital output with voltage level referring to VDD .", 20 SCLK (in) "Serial clock; Digital input 3.3 V or 5V.", 21 ~{RST} (in) "Reset input pin; Digital input 3.3 V or 5V. Low active", 22 SI (in) "Serial data in; Digital input 3.3 V or 5V.", 23 ~{CS} (in) "SPI chip select; Digital input 3.3 V or 5V. Low active", 24 VDDA (power) "Analog Supply Voltage; Connected to 5V Voltage with Reverse protection Diode and Filter against EMC"

## TLE8102SG
designator U?
Smart Dual Channel Powertrain Switch coreFLEX with Selectable Over-Current Protection, -40 to 150 degC, PG-DSO-12-11, Reel, Green; Manufacturer: Infineon; PartNumber: TLE8102SG; Channels: 2; Green: TRUE; Thermal class: Heatslug down; toff (max): 10 us 50 us; VDD: 5 V; VDS(CL): 53 V; VDS(CL) (min): 48 V; DatasheetVersion: V1.5; PackageVersion: Jun-08; PackageReference: PG-DSO-12-11; PackageDescription: 12-Pin Plastic (Green) Dual Small Outline Package, 6.4 x 7.5 mm Body, 1 mm Pitch; Supplier 1: Mouser; Supplier Part Number 1: 726-TLE8102SG; Supplier 2: Digi-Key; Supplier Part Number 2: TLE8102SGTR-ND; Supplier 3: Digi-Key; Supplier Part Number 3: TLE8102SGCT-ND; Supplier 4: Digi-Key; Supplier Part Number 4: TLE8102SGDKR-ND; Halogen-free: TRUE; Over-Current Protection: Selectable; Packing: Reel; ton (max): 10 us 50 us; Mounting Technology: Surface Mount; ComponentLink1Description: Manufacturer URL; ComponentLink1URL: http://www.infineon.com/; ComponentLink2Description: Datasheet; ComponentLink2URL: http://www.infineon.com/dgdl/TLE8102SG_v1+5.pdf?folderId=db3a30431400ef68011421b54e2e0564&fileId=db3a304319c6f18c0119c8384bf90042&sId=db3a30433d68e984013d7c34507d561b; ComponentLink3Description: Package Specification; ComponentLink3URL: http://www.infineon.com/dgdl/PG-DSO-12-4%2C-5%2C-8%2C-11%2C-12%2C-16-Package_Overview.pdf?folderId=db3a30431a5c32f2011a96d8abf9584d&fileId=db3a30431a5c32f2011a96ea67ce586f
footprint INF-PG-DSO-12-11_N (SOP, 12-Leads, Body 7.5x6.4mm, Pitch 1mm, Thermal Pad 7.9x4.3mm, IPC Medium Density)
footprint INF-PG-DSO-12-11_L (SOP, 12-Leads, Body 7.5x6.4mm, Pitch 1mm, Thermal Pad 7.9x4.3mm, IPC High Density)
footprint INF-PG-DSO-12-11_M (SOP, 12-Leads, Body 7.5x6.4mm, Pitch 1mm, Thermal Pad 7.9x4.3mm, IPC Low Density)
pins: 1 IN2 (in) "Input Channel 2", 2 SI (in) "SPI Signal In", 3 OUT2 (power) "Power Output Channel 2", 4 CO1 (io) "Current Sense 1/2/Fault/Status Ch1", 5 SCLK (in) "SPI Clock", 6 GND (power) "Ground", 7 IN1 (in) "Input Channel 1", 8 CS (in) "SPI Chip Select", 9 OUT1 (power) "Power Output Channel 1", 10 VDD (power) "Supply Voltage", 11 CO2 (hiz) "SPI Signal Out/Status Ch2", 12 GND (power) "Ground", 13 EP (power)

## TLE8104E
designator U?
Smart Quad Channel Powertrain Switch with Limitation Over-Current Protection, -40 to 150 degC, PG-DSO-20-30, Reel, Green; Manufacturer: Infineon; PartNumber: TLE8104E; Channels: 4; Green: TRUE; Thermal class: Exposed Pad; toff (max): 10 us; VDD: 5 V; VDS(CL): 53 V; VDS(CL) (min): 45 V; DatasheetVersion: V1.4; PackageVersion: Apr-09; PackageReference: PG-DSO-20-30; PackageDescription: 20-Pin Plastic (Green) Dual Small Outline Package, 12.7 x 7.5 mm Body, 1.27 mm Pitch; Supplier 1: Mouser; Supplier Part Number 1: 726-TLE8104E; Supplier 2: Digi-Key; Supplier Part Number 2: TLE8104ETR-ND; Supplier 3: Digi-Key; Supplier Part Number 3: TLE8104ECT-ND; Supplier 4: Digi-Key; Supplier Part Number 4: TLE8104EDKR-ND; Halogen-free: TRUE; Over-Current Protection: Limitation; Packing: Reel; ton (max): 10 us; Mounting Technology: Surface Mount; ComponentLink1Description: Manufacturer URL; ComponentLink1URL: http://www.infineon.com/; ComponentLink2Description: Datasheet; ComponentLink2URL: http://www.infineon.com/dgdl/TLE8104E-Data-Sheet-V14.pdf?folderId=db3a304314dca3890114df197b25000f&fileId=db3a304318f3fe2901190401cfda7f25&sId=db3a30443d67b5ca013d812c1a752cb1; ComponentLink3Description: Package Specification; ComponentLink3URL: http://www.infineon.com/dgdl/PG-DSO-20-27%2C-30-Package_Overview.pdf?folderId=db3a30431b0626df011b0b56b8d37d27&fileId=db3a30431c69a49d011c9eab3ee707b8
footprint INF-PG-DSO-20-30_N (SOP, 20-Leads, Body 12.7x7.5mm, Pitch 1.27mm, Thermal Pad 7000x4800mm, IPC Medium Density)
footprint INF-PG-DSO-20-30_L (SOP, 20-Leads, Body 12.7x7.5mm, Pitch 1.27mm, Thermal Pad 7000x4800mm, IPC High Density)
footprint INF-PG-DSO-20-30_M (SOP, 20-Leads, Body 12.7x7.5mm, Pitch 1.27mm, Thermal Pad 7000x4800mm, IPC Low Density)
pins: 1 GND (power) "Ground", 2 IN2 (in) "Input Channel 2", 3 OUT1 (power) "Power Output Channel 1", 4 VS (power) "Supply Voltage", 5 ~{RESET} (in) "Reset Input", 6 ~{CS} (in) "SPI Chip Select", 7 PRG (in) "Program Input", 8 OUT2 (power) "Power Output Channel 1", 9 IN1 (in) "Input Channel 1", 10 GND (power) "Ground", 11 GND (power) "Ground", 12 IN4 (in) "Input Channel 4", 13 OUT3 (power) "Power Output Channel 3", 14 ~{FAULT} (oc) "Fault Output", 15 SO (hiz) "SPI Signal Out", 16 SCLK (in) "SPI Clock", 17 SI (in) "SPI Signal In", 18 OUT4 (power) "Power Output Channel 4", 19 IN3 (in) "Input Channel 3", 20 GND (power) "Ground", 21 EP

## TLE8108EM
designator U?
Smart 8 Channel Low Side Relay Driver with SPI Interface with Limitation Over-Current Protection, -40 to 150 degC, PG-SSOP-24-4, Reel, Green; Manufacturer: Infineon; PartNumber: TLE8108EM; Channels: 8; Green: TRUE; Thermal class: Exposed Pad; toff (max): 50 us; VDD: 5 V; VDS(CL): 45 V; VDS(CL) (min): 41 V; DatasheetVersion: Rev. 1.0; PackageVersion: Oct-12; PackageReference: PG-SSOP-24-4; PackageDescription: 24-Pin Plastic (Green) Shrink Small Outline Package, 8.65 x 3.9 mm Body, 0.65 mm Pitch; Supplier 1: Mouser; Supplier Part Number 1: 726-TLE8108EM; Supplier 2: Digi-Key; Supplier Part Number 2: TLE8108EM-ND; Halogen-free: TRUE; Over-Current Protection: Limitation; Packing: Reel; ton (max): 50 us; Mounting Technology: Surface Mount; ComponentLink1Description: Manufacturer URL; ComponentLink1URL: http://www.infineon.com/; ComponentLink2Description: Datasheet; ComponentLink2URL: http://www.infineon.com/dgdl/TLE8108EM-v1.0-Data-Sheet.pdf?folderId=db3a30431400ef68011421b54e2e0564&fileId=db3a30433004641301302bf77ce863a2&sId=db3a30443d67b5ca013d7df33535290c; ComponentLink3Description: Package Specification; ComponentLink3URL: http://www.infineon.com/dgdl/TLE8088EM_DS_10.pdf?folderId=db3a30431b3e89eb011bb632994f065b&fileId=db3a30433a047ba0013a446e76be0bbb&location=en.Products.Automotive_ICs.Powertrain_ICs.Power_Interface_Products_for_Motorcycle_and_Small_Engines.DATASHEET.TLE8088EM_DS_10.pdf
footprint INF-PG-SSOP-24-4_N (SOP, 24-Leads, Body 8.65x3.9mm, Pitch 0.65mm, Thermal Pad 6.65x2.9mm, IPC Medium Density)
footprint INF-PG-SSOP-24-4_L (SOP, 24-Leads, Body 8.65x3.9mm, Pitch 0.65mm, Thermal Pad 6.65x2.9mm, IPC High Density)
footprint INF-PG-SSOP-24-4_M (SOP, 24-Leads, Body 8.65x3.9mm, Pitch 0.65mm, Thermal Pad 6.65x2.9mm, IPC Low Density)
pins: 1 GND (power) "Ground; common ground for digital, analog and power; Pins must be connected together without parasitic resistors", 2 GND (power) "Ground; common ground for digital, analog and power; Pins must be connected together without parasitic resistors", 3 OUT1 (power) "Output channel 1; Drain of power transistor channel 1", 4 OUT2 (power) "Output channel 2; Drain of power transistor channel 2", 5 OUT3 (power) "Output channel 3; Drain of power transistor channel 3", 6 OUT4 (power) "Output channel 4; Drain of power transistor channel 4", 7 OUT5 (power) "Output channel 5; Drain of power transistor channel 5", 8 OUT6 (power) "Output channel 6; Drain of power transistor channel 6", 9 OUT7 (power) "Output channel 7; Drain of power transistor channel 7", 10 OUT8 (power) "Output channel 8; Drain of power transistor channel 8", 11 GND (power) "Ground; common ground for digital, analog and power; Pins must be connected together without parasitic resistors", 12 GND (power) "Ground; common ground for digital, analog and power; Pins must be connected together without parasitic resistors", 13 VDD (power) "Supply voltage; Connected to 5V voltage with reverse protection diode and filter against EMC; Both pins must be connected to the supply without parasitic resistors", 14 ~{IN4} (in) "Active Low; Control input; Digital input 3.3V or 5V; If not used, pin must be connected to GND", 15 ~{IN3} (in) "Active Low; Control input; Digital input 3.3V or 5V; If not used, pin must be connected to GND", 16 ~{IN2} (in) "Active Low; Control input; Digital input 3.3V or 5V; If not used, pin must be connected to GND", 17 ~{IN1} (in) "Active Low; Control input; Digital input 3.3V or 5V; If not used, pin must be connected to GND", 18 NC "Not Connected; pin must be tied to GND", 19 SO (hiz) "Serial data out; Digital output with voltage level referring to VDD", 20 ~{SCLK} (in) "Active Low; Serial clock; Digital input 3.3V or 5V", 21 ~{RST} (in) "Active Low; Reset input pin; Digital input 3.3V or 5V", 22 ~{SI} (in) "Active Low; Serial data in; Digital input 3.3V or 5V.", 23 ~{CS} (in) "Active Low; SPI chip select; Digital input 3.3V or 5V", 24 VDD (power) "Supply voltage; Connected to 5V voltage with reverse protection diode and filter against EMC; Both pins must be connected to the supply without parasitic resistors", 25 GND (power) "Cooling TAB (bottom side); Internally connected to ground; Pin must be connected externally to ground without parasitic resistors"

## TLE8110EE
designator U?
Smart Multichannel Low Side Switch with Parallel Control and SPI Interface coreFLEX with Shutdown Over-Current Protection, -40 to 150 degC, PG-DSO-36-24, Reel, Green; Manufacturer: Infineon; PartNumber: TLE8110EE; Channels: 10; Green: TRUE; Thermal class: Exposed Pad; toff (max): 10 us; VDD: 5 V; VDS(CL): 55 V; VDS(CL) (min): 45 V; DatasheetVersion: Rev. 1.3.1; PackageVersion: Apr-09; PackageReference: PG-DSO-36-24; PackageDescription: 36-Pin Plastic (Green) Dual Small Outline Package, 12.7 x 7.5 mm Body, 0.65 mm Pitch; Halogen-free: TRUE; Over-Current Protection: Shutdown; Packing: Reel; ton (max): 10 us; Mounting Technology: Surface Mount; ComponentLink1Description: Manufacturer URL; ComponentLink1URL: http://www.infineon.com/; ComponentLink2Description: Datasheet; ComponentLink2URL: http://www.infineon.com/dgdl/TLE8110EE+v.1.3.1+-+Data+Sheet.pdf?folderId=db3a30431400ef68011421b54e2e0564&fileId=db3a30433072cd8f01309dd8cb676d3f&sId=db3a30443d67b5ca013d8120c6332ca7; ComponentLink3Description: Package Specification; ComponentLink3URL: http://www.infineon.com/dgdl/PG-DSO-36-24%2C-38%2C-41%2C-42%2C-50-Package_Overview.pdf?folderId=db3a304316f66ee801179ce26c705f4a&fileId=db3a304319c6f18c011a3ac6ea200605
footprint INF-PG-DSO-36-24_N (SOP, 36-Leads, Body 12.7x7.5mm, Pitch 0.65mm, Thermal Pad 7x5.1mm, IPC Medium Density)
footprint INF-PG-DSO-36-24_L (SOP, 36-Leads, Body 12.7x7.5mm, Pitch 0.65mm, Thermal Pad 7x5.1mm, IPC High Density)
footprint INF-PG-DSO-36-24_M (SOP, 36-Leads, Body 12.7x7.5mm, Pitch 0.65mm, Thermal Pad 7x5.1mm, IPC Low Density)
pins: 1 GND (power) "Ground", 2 P_IN1 (in) "Parallel Input Pin 1. Default assignment to Output Channel 1.", 3 P_IN2 (in) "Parallel Input Pin 2. Default assignment to Output Channel 2.", 4 EN (in) "Enable Input Pin. If not needed, connect with Pull-up resistor to VCC.", 5 ~{RST} (in) "Reset Input Pin. (low active). If not needed, connect with Pull-up resistor to VCC.", 6 P_IN3 (in) "Parallel Input Pin 3. Default assignment to Output Channel 3.", 7 P_IN4 (in) "Parallel Input Pin 4. Default assignment to Output Channel 4.", 8 VDD (power) "Analogue Supply Voltage", 9 P_IN5 (in) "Parallel Input Pin 5. Default assignment to Output Channel 5.", 10 VCC (power) "Digital Supply Voltage", 11 S_SO (hiz) "Serial Peripheral Interface [SPI], Serial Output", 12 S_CLK (in) "Serial Peripheral Interface [SPI], Clock Input", 13 ~{S_CS} (in) "Serial Peripheral Interface [SPI], Chip Select (active Low)", 14 S_SI (in) "Serial Peripheral Interface [SPI], Serial Input", 15 P_IN6 (in) "Parallel Input Pin 6. Default assignment to Output Channel 6.", 16 P_IN7 (in) "Parallel Input Pin 7. Default assignment to Output Channel 7.", 17 P_IN8 (in) "Parallel Input Pin 8. Default assignment to Output Channel 8.", 18 GND (power) "Ground", 19 GND (power) "Ground", 20 OUT9 (power) "Drain of Power Transistor Channel 9", 21 OUT10 (power) "Drain of Power Transistor Channel 10", 22 NC "internally not connected, connect to Ground", 23 GND (power) "Ground", 24 OUT6 (power) "Drain of Power Transistor Channel 6", 25 OUT4 (power) "Drain of Power Transistor Channel 4", 26 OUT3 (power) "Drain of Power Transistor Channel 3", 27 P_IN9 (in) "Parallel Input Pin 9. Default assignment to Output Channel 9.", 28 P_IN10 (in) "Parallel Input Pin 10. Default assignment to Output Channel 10.", 29 OUT2 (power) "Drain of Power Transistor Channel 2", 30 OUT1 (power) "Drain of Power Transistor Channel 1", 31 OUT5 (power) "Drain of Power Transistor Channel 5", 32 GND (power) "Ground", 33 NC "internally not connected, connect to Ground", 34 OUT8 (power) "Drain of Power Transistor Channel 8", 35 OUT7 (power) "Drain of Power Transistor Channel 7", 36 GND (power) "Ground", 37 GND (power) "Cooling Tab; internally connected to GND"